# Altium schematic symbol library RF.SchLib: 55 symbols
Pins are listed as number, name and electrical type; pins without a type are passive.

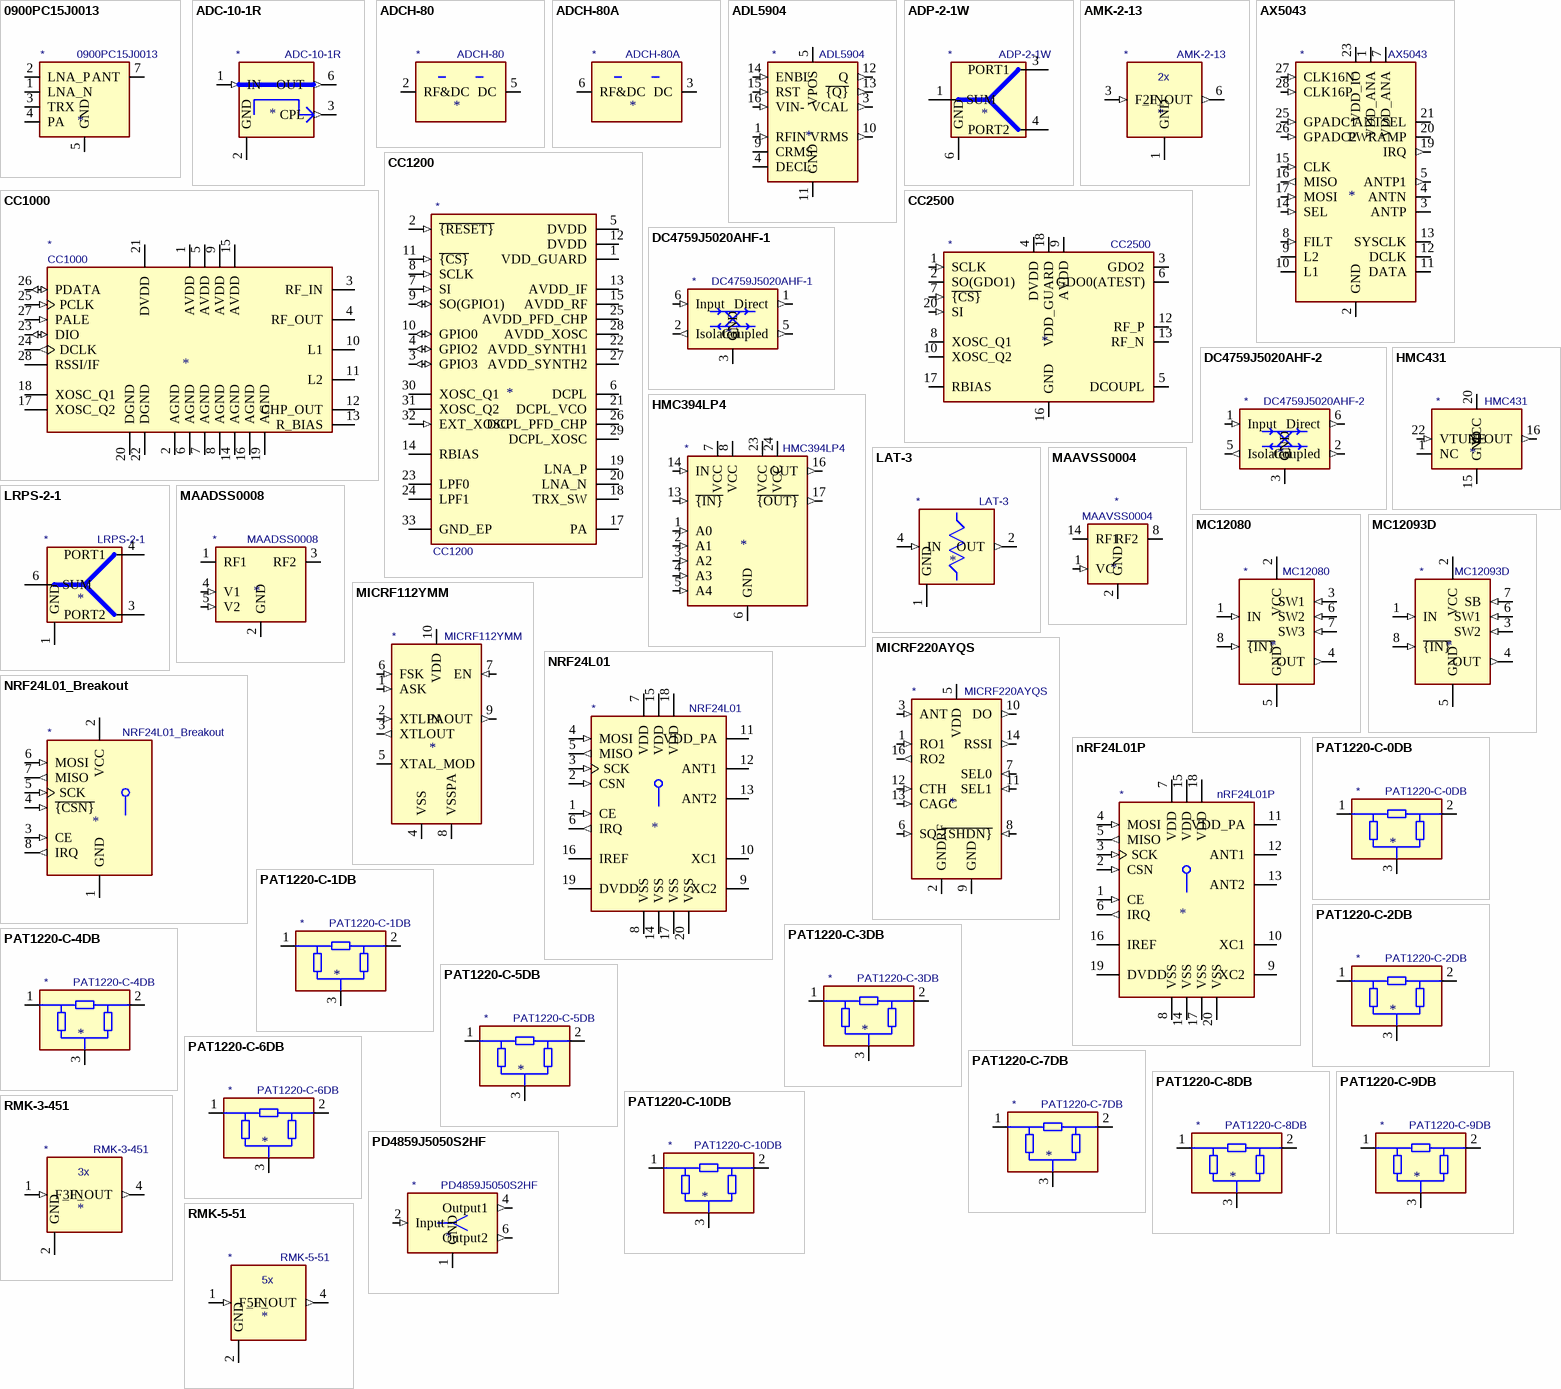
[diagram p0: symbols 0900PC15J0013 to RMK-5-51]

## 0900PC15J0013
designator *  value 0900PC15J0013
ki_keywords: CC1120 CC1121 CC1125 CC1175 CC1200 CC1201 balun; ki_description: 868/915MHz Impedance Matched, Multi-Function, Integrated Ceramic Passive Component for Texas Instruments CC112x, CC117x & CC12xx Chipsets; ki_fp_filters: Balun*Johanson*0900PC15J0013*; Footprint: RF_Converter:Balun_Johanson_0900PC15J0013; Supplier: https://www.johansontechnology.com/datasheets/0900PC15J0013/0900PC15J0013.pdf
footprint Balun_Johanson_0900PC15J0013
pins: 1 LNA_N, 2 LNA_P, 3 TRX, 4 PA, 5 GND (power), 6 GND hidden, 7 ANT, 8 GND hidden, 9 GND hidden, 10 GND hidden

## ADC-10-1R
designator *  value ADC-10-1R
ki_keywords: Directional Coupler; ki_description: Directional Coupler, 5 to 900 MHz, 10 dB Coupling, 50 Ohm, Mini-Circuits CD542; ki_fp_filters: Mini?Circuits*CD542*; Footprint: RF_Mini-Circuits:Mini-Circuits_CD542_LandPatternPL-094; Supplier: https://www.minicircuits.com/pdfs/ADC-10-1R.pdf
footprint Mini-Circuits_CD542_LandPatternPL-094
pins: 1 IN (in), 2 GND (power), 3 CPL (out), 4 NC (in) hidden, 5 GND hidden, 6 OUT (out)

## ADCH-80
designator *  value ADCH-80
ki_keywords: bias filter DC choke; ki_description: 50-10000MHz, RF Choke, Mini-Circuits CD542; ki_fp_filters: Mini?Circuits*CD542*; Footprint: RF_Mini-Circuits:Mini-Circuits_CD542_H2.84mm; Supplier: https://www.minicircuits.com/pdfs/ADCH-80+.pdf
footprint Mini-Circuits_CD542_H2.84mm
pins: 1 NC (in) hidden, 2 RF&DC, 3 NC (in) hidden, 4 NC (in) hidden, 5 DC, 6 NC (in) hidden

## ADCH-80A
designator *  value ADCH-80A
ki_keywords: bias filter DC choke; ki_description: 50-10000MHz, RF Choke, Mini-Circuits CD542; ki_fp_filters: Mini?Circuits*CD542*; Footprint: RF_Mini-Circuits:Mini-Circuits_CD542_H2.84mm; Supplier: https://www.minicircuits.com/pdfs/ADCH-80A+.pdf
footprint Mini-Circuits_CD542_H2.84mm
pins: 1 NC (in) hidden, 2 NC (in) hidden, 3 DC, 4 NC (in) hidden, 5 NC (in) hidden, 6 RF&DC

## ADL5904
designator *  value ADL5904
ki_keywords: RMS power detector log decibel dB; ki_description: DC to 6 GHz, 45 dB TruPwr Detector with Envelope Threshold Detection, LFCSP-16; ki_fp_filters: LFCSP*1EP*3x3mm*P0.5mm*; Footprint: Package_CSP:LFCSP-16-1EP_3x3mm_P0.5mm_EP1.6x1.6mm; Supplier: https://www.analog.com/media/en/technical-documentation/data-sheets/ADL5904.pdf
footprint LFCSP-16-1EP_3x3mm_P0.5mm_EP1.6x1.6mm
pins: 1 RFIN (in), 2 DNC (in) hidden, 3 VCAL (out), 4 DECL, 5 VPOS (power), 6 DNC (in) hidden, 7 VPOS hidden, 8 DNC (in) hidden, 9 CRMS, 10 VRMS (out), 11 GND (power), 12 Q (out), 13 ~{{Q}} (out), 14 ENBL (in), 15 RST (in), 16 VIN- (in), 17 GND hidden

## ADP-2-1W
designator *  value ADP-2-1W
ki_keywords: splitter combiner; ki_description: Power splitter combiner, 1 to 650 MHz, 2 way 0-degree, 50 ohm, Mini-Circuits CD636; ki_fp_filters: Mini?Circuits*CD636*; Footprint: RF_Mini-Circuits:Mini-Circuits_CD636_LandPatternPL-035; Supplier: https://www.minicircuits.com/pdfs/ADP-2-1W.pdf
footprint Mini-Circuits_CD636_LandPatternPL-035
pins: 1 SUM, 2 NC (in) hidden, 3 PORT1, 4 PORT2, 5 NC (in) hidden, 6 GND

## AMK-2-13
designator *  value AMK-2-13
ki_keywords: frequency multiplier; ki_description: 2x Frequency Multiplier, output 20 to 1000 MHz, 50 Ohm, Mini-Circuits CD542; ki_fp_filters: Mini?Circuits*CD542*; Footprint: RF_Mini-Circuits:Mini-Circuits_CD542_LandPatternPL-052; Supplier: https://www.minicircuits.com/pdfs/AMK-2-13+.pdf
footprint Mini-Circuits_CD542_LandPatternPL-052
pins: 1 GND (power), 2 NC (in) hidden, 3 F_IN (in), 4 GND hidden, 5 GND hidden, 6 2F_OUT (out)
text: 2x

## AX5043
designator *  value AX5043
ki_keywords: RF, transceiver; ki_description: Advanced High Performance ASK and FSK Narrow-band Transceiver for 27 - 1050 MHz Range; ki_fp_filters: QFN?28*5x5mm*P0.5mm*; Footprint: Package_DFN_QFN:QFN-28-1EP_5x5mm_P0.5mm_EP3.35x3.35mm; Supplier: https://www.onsemi.com/pub/Collateral/AX5043-D.PDF
footprint QFN-28-1EP_5x5mm_P0.5mm_EP3.35x3.35mm
pins: 1 VDD_ANA (power), 2 GND (power), 3 ANTP (io), 4 ANTN (io), 5 ANTP1 (out), 6 GND hidden, 7 VDD_ANA (power), 8 FILT (in), 9 L2, 10 L1, 11 DATA (io), 12 DCLK (io), 13 SYSCLK (io), 14 SEL (in), 15 CLK (in), 16 MISO (out), 17 MOSI (in), 18 NC (in) hidden, 19 IRQ (out), 20 PWRAMP (io), 21 ANTSEL (io), 22 NC (in) hidden, 23 VDD_IO (power), 24 NC (in) hidden, 25 GPADC1 (in), 26 GPADC2 (in), 27 CLK16N (in), 28 CLK16P (in), 29 GND hidden

## CC1000
designator *  value CC1000
ki_keywords: Low Power RF Transceiver; ki_description: Single Chip Low Power RF Transceiver, TSSOP-28; ki_fp_filters: TSSOP*4.4x9.7mm*P0.65mm*; Footprint: Package_SO:TSSOP-28_4.4x9.7mm_P0.65mm; Supplier: www.ti.com/lit/ds/symlink/cc1000.pdf
footprint TSSOP-28_4.4x9.7mm_P0.65mm
pins: 1 AVDD (power), 2 AGND (power), 3 RF_IN, 4 RF_OUT, 5 AVDD (power), 6 AGND (power), 7 AGND (power), 8 AGND (power), 9 AVDD (power), 10 L1, 11 L2, 12 CHP_OUT, 13 R_BIAS, 14 AGND (power), 15 AVDD (power), 16 AGND (power), 17 XOSC_Q2, 18 XOSC_Q1, 19 AGND (power), 20 DGND (power), 21 DVDD (power), 22 DGND (power), 23 DIO (io), 24 DCLK (out), 25 PCLK (in), 26 PDATA (io), 27 PALE (in), 28 RSSI/IF

## CC1200
designator *  value CC1200
ki_keywords: RF Tx Rx; ki_description: Low-Power, High-Performance RF Transceiver, QFN-32; ki_fp_filters: QFN*5x5mm*P0.5mm*; Footprint: Package_DFN_QFN:QFN-32-1EP_5x5mm_P0.5mm_EP3.45x3.45mm; Supplier: http://www.ti.com/lit/ds/symlink/cc1200.pdf
footprint QFN-32-1EP_5x5mm_P0.5mm_EP3.45x3.45mm
pins: 1 VDD_GUARD (power), 2 ~{{RESET}} (in), 3 GPIO3 (io), 4 GPIO2 (io), 5 DVDD (power), 6 DCPL (power), 7 SI (in), 8 SCLK (in), 9 SO(GPIO1) (io), 10 GPIO0 (io), 11 ~{{CS}} (in), 12 DVDD (power), 13 AVDD_IF (power), 14 RBIAS, 15 AVDD_RF (power), 17 PA, 18 TRX_SW, 19 LNA_P, 20 LNA_N, 21 DCPL_VCO (power), 22 AVDD_SYNTH1 (power), 23 LPF0, 24 LPF1, 25 AVDD_PFD_CHP (power), 26 DCPL_PFD_CHP (power), 27 AVDD_SYNTH2 (power), 28 AVDD_XOSC (power), 29 DCPL_XOSC (power), 30 XOSC_Q1, 31 XOSC_Q2, 32 EXT_XOSC (in), 33 GND_EP (power)

## CC2500
designator *  value CC2500
ki_keywords: Low Power RF Transceiver; ki_description: Single Chip Low Power RF Transceiver, QFN-20; ki_fp_filters: *QFN*4x4mm*0.5mm*; Footprint: Package_DFN_QFN:Texas_S-PVQFN-N20_EP2.4x2.4mm; Supplier: http://www.ti.com/lit/ds/symlink/cc2500.pdf
footprint Texas_S-PVQFN-N20_EP2.4x2.4mm
pins: 1 SCLK (in), 2 SO(GDO1) (io), 3 GDO2 (io), 4 DVDD (power), 5 DCOUPL (power), 6 GDO0(ATEST) (io), 7 ~{{CS}} (in), 8 XOSC_Q1, 9 AVDD (power), 10 XOSC_Q2, 11 AVDD hidden, 12 RF_P, 13 RF_N, 14 AVDD hidden, 15 AVDD hidden, 16 GND (power), 17 RBIAS, 18 VDD_GUARD (power), 19 GND hidden, 20 SI (in), 21 GND hidden

## DC4759J5020AHF-1
designator *  value DC4759J5020AHF-1
ki_keywords: RF coupler; ki_description: 4.7-5.9GHz 20dB Directional Coupler, Configuration 1, Anaren 0805; ki_fp_filters: Anaren*0805*2012Metric*; Footprint: RF_Converter:Anaren_0805_2012Metric-6; Supplier: https://cdn.anaren.com/product-documents/Xinger/DirectionalCouplers/DC4759J5020AHF/DC4759J5020AHF_DataSheet(Rev_E).pdf
footprint Anaren_0805_2012Metric-6
pins: 1 Direct (out), 2 Isolated (out), 3 GND (power), 4 GND hidden, 5 Coupled (out), 6 Input (in)

## DC4759J5020AHF-2
designator *  value DC4759J5020AHF-2
ki_keywords: RF coupler; ki_description: 4.7-5.9GHz 20dB Directional Coupler, Configuration 2, Anaren 0805; ki_fp_filters: Anaren*0805*2012Metric*; Footprint: RF_Converter:Anaren_0805_2012Metric-6; Supplier: https://cdn.anaren.com/product-documents/Xinger/DirectionalCouplers/DC4759J5020AHF/DC4759J5020AHF_DataSheet(Rev_E).pdf
footprint Anaren_0805_2012Metric-6
pins: 1 Input (in), 2 Coupled (out), 3 GND (power), 4 GND hidden, 5 Isolated (out), 6 Direct (out)

## HMC394LP4
designator *  value HMC394LP4
ki_keywords: counter prescaler programmable frequency divider; ki_description: GaAs HBT Programmable 5-bit Counter, DC - 2.2 GHz, QFN-24-1EP; ki_fp_filters: QFN*1EP*4x4mm*P0.5mm*; Footprint: Package_DFN_QFN:QFN-24-1EP_4x4mm_P0.5mm_EP2.8x2.8mm; Supplier: https://www.analog.com/media/en/technical-documentation/data-sheets/hmc394.pdf
footprint QFN-24-1EP_4x4mm_P0.5mm_EP2.8x2.8mm
pins: 1 A0 (in), 2 A1 (in), 3 A2 (in), 4 A3 (in), 5 A4 (in), 6 GND (power), 7 VCC (power), 8 VCC (power), 9 GND hidden, 10 GND hidden, 11 GND hidden, 12 GND hidden, 13 ~{{IN}} (in), 14 IN (in), 15 GND hidden, 16 OUT (out), 17 ~{{OUT}} (out), 18 GND hidden, 19 GND hidden, 20 GND hidden, 21 GND hidden, 22 GND hidden, 23 VCC (power), 24 VCC (power), 25 GND hidden

## HMC431
designator *  value HMC431
ki_keywords: vco rf; ki_description: 5.5-6.1GHz VCO, QFN-24; ki_fp_filters: QFN*1EP*4x4mm*P0.5mm*; Footprint: Package_DFN_QFN:QFN-24-1EP_4x4mm_P0.5mm_EP2.8x2.8mm; Supplier: https://www.analog.com/media/en/technical-documentation/data-sheets/hmc431.pdf
footprint QFN-24-1EP_4x4mm_P0.5mm_EP2.8x2.8mm
pins: 1 NC, 2 NC hidden, 3 NC hidden, 4 NC hidden, 5 NC hidden, 6 NC hidden, 7 NC hidden, 8 NC hidden, 9 NC hidden, 10 NC hidden, 11 NC hidden, 12 NC hidden, 13 NC hidden, 14 NC hidden, 15 GND (power), 16 RFOUT (out), 17 NC hidden, 18 NC hidden, 19 NC hidden, 20 VCC (power), 21 NC hidden, 22 VTUNE (in), 23 NC hidden, 24 NC hidden, 25 GND hidden

## LAT-3
designator *  value LAT-3
ki_keywords: attenuator rf; ki_description: Attenuator, 3dB, 0.5W, DC to 2500 MHz, 50 Ohm, Mini-Circuits MMM168; ki_fp_filters: Mini?Circuits*MMM168*; Footprint: RF_Mini-Circuits:Mini-Circuits_MMM168_LandPatternPL-225; Supplier: https://www.minicircuits.com/pdfs/LAT-3+.pdf
footprint Mini-Circuits_MMM168_LandPatternPL-225
pins: 1 GND (power), 2 OUT (out), 3 GND hidden, 4 IN (in)

## LRPS-2-1
designator *  value LRPS-2-1
ki_keywords: power splitter combiner; ki_description: Power Splitter/Combiner, 5 to 500 MHz, 50 Ohm; ki_fp_filters: Mini?Circuits*QQQ130*; Footprint: RF_Mini-Circuits:Mini-Circuits_QQQ130_LandPattern_PL-236_ClockwisePinNumbering; Supplier: https://www.minicircuits.com/pdfs/LRPS-2-1.pdf
footprint Mini-Circuits_QQQ130_LandPattern_PL-236_ClockwisePinNumbering
pins: 1 GND, 2 NC (in) hidden, 3 PORT2, 4 PORT1, 5 NC (in) hidden, 6 SUM

## MAADSS0008
designator *  value MAADSS0008
ki_keywords: RF attenuator; ki_description: 0-2GHz, 15dB step attenuator, SOT-23-5; ki_fp_filters: SOT*23*5*; Footprint: Package_TO_SOT_SMD:SOT-23-5; Supplier: http://cdn.macom.com/datasheets/maadss0008.pdf
footprint SOT-23-5
pins: 1 RF1, 2 GND, 3 RF2, 4 V1 (in), 5 V2 (in)

## MAAVSS0004
designator *  value MAAVSS0004
ki_keywords: VVA; ki_description: DC-2GHz, 35dB, Voltage Variable Absorptive Attenuator, SOIC-14; ki_fp_filters: SOIC*3.9x8.7mm*P1.27mm*; Footprint: Package_SO:SOIC-14_3.9x8.7mm_P1.27mm; Supplier: https://cdn.macom.com/datasheets/MAAVSS0004.pdf
footprint SOIC-14_3.9x8.7mm_P1.27mm
pins: 1 VC (in), 2 GND (power), 3 GND hidden, 4 GND hidden, 5 GND hidden, 6 GND hidden, 7 GND hidden, 8 RF2, 9 GND hidden, 10 GND hidden, 11 GND hidden, 12 GND hidden, 13 GND hidden, 14 RF1

## MC12080
designator *  value MC12080
ki_keywords: prescaler frequency divider; ki_description: 1.1 GHz Prescaler, divide by 10 20 40 80, SOIC-8; ki_fp_filters: SOIC*3.9x4.9mm*P1.27mm*; Footprint: Package_SO:SOIC-8_3.9x4.9mm_P1.27mm; Supplier: https://www.onsemi.com/pub/Collateral/MC12080-D.PDF
footprint SOIC-8_3.9x4.9mm_P1.27mm
pins: 1 IN (in), 2 VCC (power), 3 SW1 (in), 4 OUT (out), 5 GND (power), 6 SW2 (in), 7 SW3 (in), 8 ~{{IN}} (in)

## MC12093D
designator *  value MC12093D
ki_keywords: prescaler frequency divider; ki_description: /2, /4, /8, 1.1 GHz Low Power Prescaler with Stand‐By Mode, SOIC-8; ki_fp_filters: SOIC*3.9x4.9mm*P1.27mm*; Footprint: Package_SO:SOIC-8_3.9x4.9mm_P1.27mm; Supplier: https://www.onsemi.com/pub/Collateral/MC12093-D.PDF
footprint SOIC-8_3.9x4.9mm_P1.27mm
pins: 1 IN (in), 2 VCC (power), 3 SW2 (in), 4 OUT (out), 5 GND (power), 6 SW1 (in), 7 SB (in), 8 ~{{IN}} (in)

## MICRF112YMM
designator *  value MICRF112YMM
ki_keywords: ask fsk ism transmitter; ki_description: ASK/FSK Transmitter, 1.8-3.6V, 300-450MHz, +10dBm, MSOP-10; ki_fp_filters: MSOP*3x3mm*P0.5mm*; Footprint: Package_SO:MSOP-10_3x3mm_P0.5mm; Supplier: http://ww1.microchip.com/downloads/en/DeviceDoc/MICRF112.pdf
footprint MSOP-10_3x3mm_P0.5mm
pins: 1 ASK (in), 2 XTLIN (in), 3 XTLOUT (out), 4 VSS (power), 5 XTAL_MOD, 6 FSK (in), 7 EN (in), 8 VSSPA (power), 9 PAOUT (out), 10 VDD (power)

## MICRF220AYQS
designator *  value MICRF220AYQS
ki_keywords: ask receiver; ki_description: ASK Receiver 3.0-3.6V, 300-450MHz, -110dBm, QSOP-16; ki_fp_filters: QSOP*3.9x4.9mm*P0.635mm*; Footprint: Package_SO:QSOP-16_3.9x4.9mm_P0.635mm; Supplier: http://ww1.microchip.com/downloads/en/DeviceDoc/micrf220.pdf
footprint QSOP-16_3.9x4.9mm_P0.635mm
pins: 1 RO1 (in), 2 GNDRF (power), 3 ANT (in), 4 GNDRF hidden, 5 VDD (power), 6 SQ (in), 7 SEL0 (in), 8 ~{{SHDN}} (in), 9 GND (power), 10 DO (out), 11 SEL1 (in), 12 CTH (in), 13 CAGC (in), 14 RSSI (out), 15 NC (in) hidden, 16 RO2 (out)

## NRF24L01
designator *  value NRF24L01
ki_keywords: Low Power RF Transceiver; ki_description: Ultra low power 2.4GHz RF Transceiver, QFN-20; ki_fp_filters: QFN*4x4*0.5mm*; Footprint: Package_DFN_QFN:QFN-20-1EP_4x4mm_P0.5mm_EP2.5x2.5mm; Supplier: http://www.nordicsemi.com/eng/content/download/2730/34105/file/nRF24L01_Product_Specification_v2_0.pdf
footprint QFN-20-1EP_4x4mm_P0.5mm_EP2.5x2.5mm
pins: 1 CE (in), 2 CSN (in), 3 SCK (in), 4 MOSI (in), 5 MISO (out), 6 IRQ (out), 7 VDD (power), 8 VSS (power), 9 XC2, 10 XC1, 11 VDD_PA (power), 12 ANT1, 13 ANT2, 14 VSS (power), 15 VDD (power), 16 IREF, 17 VSS (power), 18 VDD (power), 19 DVDD (power), 20 VSS (power)

## NRF24L01_Breakout
designator *  value NRF24L01_Breakout
ki_keywords: Low Power RF Transceiver breakout carrier; ki_description: Ultra low power 2.4GHz RF Transceiver, Carrier PCB; ki_fp_filters: nRF24L01*Breakout*; Footprint: RF_Module:nRF24L01_Breakout; Supplier: http://www.nordicsemi.com/eng/content/download/2730/34105/file/nRF24L01_Product_Specification_v2_0.pdf
footprint nRF24L01_Breakout
pins: 1 GND (power), 2 VCC (power), 3 CE (in), 4 ~{{CSN}} (in), 5 SCK (in), 6 MOSI (in), 7 MISO (out), 8 IRQ (out)

## nRF24L01P
designator *  value nRF24L01P
ki_keywords: Low Power RF Transceiver; ki_description: nRF24L01+, Ultra low power 2.4GHz RF Transceiver, QFN20 4x4mm; ki_fp_filters: QFN*4x4*0.5mm*; Footprint: Package_DFN_QFN:QFN-20-1EP_4x4mm_P0.5mm_EP2.5x2.5mm; Supplier: http://www.nordicsemi.com/eng/content/download/2726/34069/file/nRF24L01P_Product_Specification_1_0.pdf
footprint QFN-20-1EP_4x4mm_P0.5mm_EP2.5x2.5mm
pins: 1 CE (in), 2 CSN (in), 3 SCK (in), 4 MOSI (in), 5 MISO (out), 6 IRQ (out), 7 VDD (power), 8 VSS (power), 9 XC2, 10 XC1, 11 VDD_PA (power), 12 ANT1, 13 ANT2, 14 VSS (power), 15 VDD (power), 16 IREF, 17 VSS (power), 18 VDD (power), 19 DVDD (power), 20 VSS (power)

## PAT1220-C-0DB
designator *  value PAT1220-C-0DB
ki_keywords: RF attenuator; ki_description: 10GHz RF Attenuator, 50ohm Matched Impedance, 0dB Attenuation, PAT1220; ki_fp_filters: RF*Attenuator*Susumu*PAT1220*; Footprint: RF_Converter:RF_Attenuator_Susumu_PAT1220; Supplier: https://www.susumu.co.jp/common/pdf/n_catalog_partition16_en.pdf
footprint RF_Attenuator_Susumu_PAT1220
pins: 1, 2, 3

## PAT1220-C-1DB
designator *  value PAT1220-C-1DB
ki_keywords: RF attenuator; ki_description: 10GHz RF Attenuator, 50ohm Matched Impedance, 1dB Attenuation, PAT1220; ki_fp_filters: RF*Attenuator*Susumu*PAT1220*; Footprint: RF_Converter:RF_Attenuator_Susumu_PAT1220; Supplier: https://www.susumu.co.jp/common/pdf/n_catalog_partition16_en.pdf
footprint RF_Attenuator_Susumu_PAT1220
pins: 1, 2, 3

## PAT1220-C-2DB
designator *  value PAT1220-C-2DB
ki_keywords: RF attenuator; ki_description: 10GHz RF Attenuator, 50ohm Matched Impedance, 2dB Attenuation, PAT1220; ki_fp_filters: RF*Attenuator*Susumu*PAT1220*; Footprint: RF_Converter:RF_Attenuator_Susumu_PAT1220; Supplier: https://www.susumu.co.jp/common/pdf/n_catalog_partition16_en.pdf
footprint RF_Attenuator_Susumu_PAT1220
pins: 1, 2, 3

## PAT1220-C-3DB
designator *  value PAT1220-C-3DB
ki_keywords: RF attenuator; ki_description: 10GHz RF Attenuator, 50ohm Matched Impedance, 3dB Attenuation, PAT1220; ki_fp_filters: RF*Attenuator*Susumu*PAT1220*; Footprint: RF_Converter:RF_Attenuator_Susumu_PAT1220; Supplier: https://www.susumu.co.jp/common/pdf/n_catalog_partition16_en.pdf
footprint RF_Attenuator_Susumu_PAT1220
pins: 1, 2, 3

## PAT1220-C-4DB
designator *  value PAT1220-C-4DB
ki_keywords: RF attenuator; ki_description: 10GHz RF Attenuator, 50ohm Matched Impedance, 4dB Attenuation, PAT1220; ki_fp_filters: RF*Attenuator*Susumu*PAT1220*; Footprint: RF_Converter:RF_Attenuator_Susumu_PAT1220; Supplier: https://www.susumu.co.jp/common/pdf/n_catalog_partition16_en.pdf
footprint RF_Attenuator_Susumu_PAT1220
pins: 1, 2, 3

## PAT1220-C-5DB
designator *  value PAT1220-C-5DB
ki_keywords: RF attenuator; ki_description: 10GHz RF Attenuator, 50ohm Matched Impedance, 5dB Attenuation, PAT1220; ki_fp_filters: RF*Attenuator*Susumu*PAT1220*; Footprint: RF_Converter:RF_Attenuator_Susumu_PAT1220; Supplier: https://www.susumu.co.jp/common/pdf/n_catalog_partition16_en.pdf
footprint RF_Attenuator_Susumu_PAT1220
pins: 1, 2, 3

## PAT1220-C-6DB
designator *  value PAT1220-C-6DB
ki_keywords: RF attenuator; ki_description: 10GHz RF Attenuator, 50ohm Matched Impedance, 6dB Attenuation, PAT1220; ki_fp_filters: RF*Attenuator*Susumu*PAT1220*; Footprint: RF_Converter:RF_Attenuator_Susumu_PAT1220; Supplier: https://www.susumu.co.jp/common/pdf/n_catalog_partition16_en.pdf
footprint RF_Attenuator_Susumu_PAT1220
pins: 1, 2, 3

## PAT1220-C-7DB
designator *  value PAT1220-C-7DB
ki_keywords: RF attenuator; ki_description: 10GHz RF Attenuator, 50ohm Matched Impedance, 7dB Attenuation, PAT1220; ki_fp_filters: RF*Attenuator*Susumu*PAT1220*; Footprint: RF_Converter:RF_Attenuator_Susumu_PAT1220; Supplier: https://www.susumu.co.jp/common/pdf/n_catalog_partition16_en.pdf
footprint RF_Attenuator_Susumu_PAT1220
pins: 1, 2, 3

## PAT1220-C-8DB
designator *  value PAT1220-C-8DB
ki_keywords: RF attenuator; ki_description: 10GHz RF Attenuator, 50ohm Matched Impedance, 8dB Attenuation, PAT1220; ki_fp_filters: RF*Attenuator*Susumu*PAT1220*; Footprint: RF_Converter:RF_Attenuator_Susumu_PAT1220; Supplier: https://www.susumu.co.jp/common/pdf/n_catalog_partition16_en.pdf
footprint RF_Attenuator_Susumu_PAT1220
pins: 1, 2, 3

## PAT1220-C-9DB
designator *  value PAT1220-C-9DB
ki_keywords: RF attenuator; ki_description: 10GHz RF Attenuator, 50ohm Matched Impedance, 9dB Attenuation, PAT1220; ki_fp_filters: RF*Attenuator*Susumu*PAT1220*; Footprint: RF_Converter:RF_Attenuator_Susumu_PAT1220; Supplier: https://www.susumu.co.jp/common/pdf/n_catalog_partition16_en.pdf
footprint RF_Attenuator_Susumu_PAT1220
pins: 1, 2, 3

## PAT1220-C-10DB
designator *  value PAT1220-C-10DB
ki_keywords: RF attenuator; ki_description: 10GHz RF Attenuator, 50ohm Matched Impedance, 10dB Attenuation, PAT1220; ki_fp_filters: RF*Attenuator*Susumu*PAT1220*; Footprint: RF_Converter:RF_Attenuator_Susumu_PAT1220; Supplier: https://www.susumu.co.jp/common/pdf/n_catalog_partition16_en.pdf
footprint RF_Attenuator_Susumu_PAT1220
pins: 1, 2, 3

## PD4859J5050S2HF
designator *  value PD4859J5050S2HF
ki_keywords: rf power divider wilkinson; ki_description: 4.8-5.9GHz Wilkinson Power Divider, Anaren 0805; ki_fp_filters: Anaren*0805*2012Metric*; Footprint: RF_Converter:Anaren_0805_2012Metric-6; Supplier: https://cdn.anaren.com/product-documents/Xinger/PowerDividers/PD4859J5050S2HF/PD4859J5050S2HF_DataSheet(Rev_D).pdf
footprint Anaren_0805_2012Metric-6
pins: 1 GND (power), 2 Input (in), 3 GND hidden, 4 Output1 (out), 5 GND hidden, 6 Output2 (out)

## RMK-3-451
designator *  value RMK-3-451
ki_keywords: frequency multiplier; ki_description: 3x Frequency Multiplier, output 300 to 450 MHz, 50 Ohm, Mini-Circuits TT1224; ki_fp_filters: Mini?Circuits*TT1224*; Footprint: RF_Mini-Circuits:Mini-Circuits_TT1224_LandPatternPL-258_ClockwisePinNumbering; Supplier: https://www.minicircuits.com/pdfs/RMK-3-451+.pdf
footprint Mini-Circuits_TT1224_LandPatternPL-258_ClockwisePinNumbering
pins: 1 F_IN (in), 2 GND (power), 3 GND hidden, 4 3F_OUT (out), 5 GND hidden, 6 GND hidden
text: 3x

## RMK-5-51
designator *  value RMK-5-51
ki_keywords: frequency multiplier; ki_description: 5x Frequency Multiplier, Output 37.5 to 52.5 MHz, 50 Ohm, Mini-Circuits TT1224; ki_fp_filters: Mini?Circuits*TT1224*; Footprint: RF_Mini-Circuits:Mini-Circuits_TT1224_LandPatternPL-258_ClockwisePinNumbering; Supplier: https://www.minicircuits.com/pdfs/RMK-5-51+.pdf
footprint Mini-Circuits_TT1224_LandPatternPL-258_ClockwisePinNumbering
pins: 1 F_IN (in), 2 GND (power), 3 GND hidden, 4 5F_OUT (out), 5 GND hidden, 6 GND hidden
text: 5x

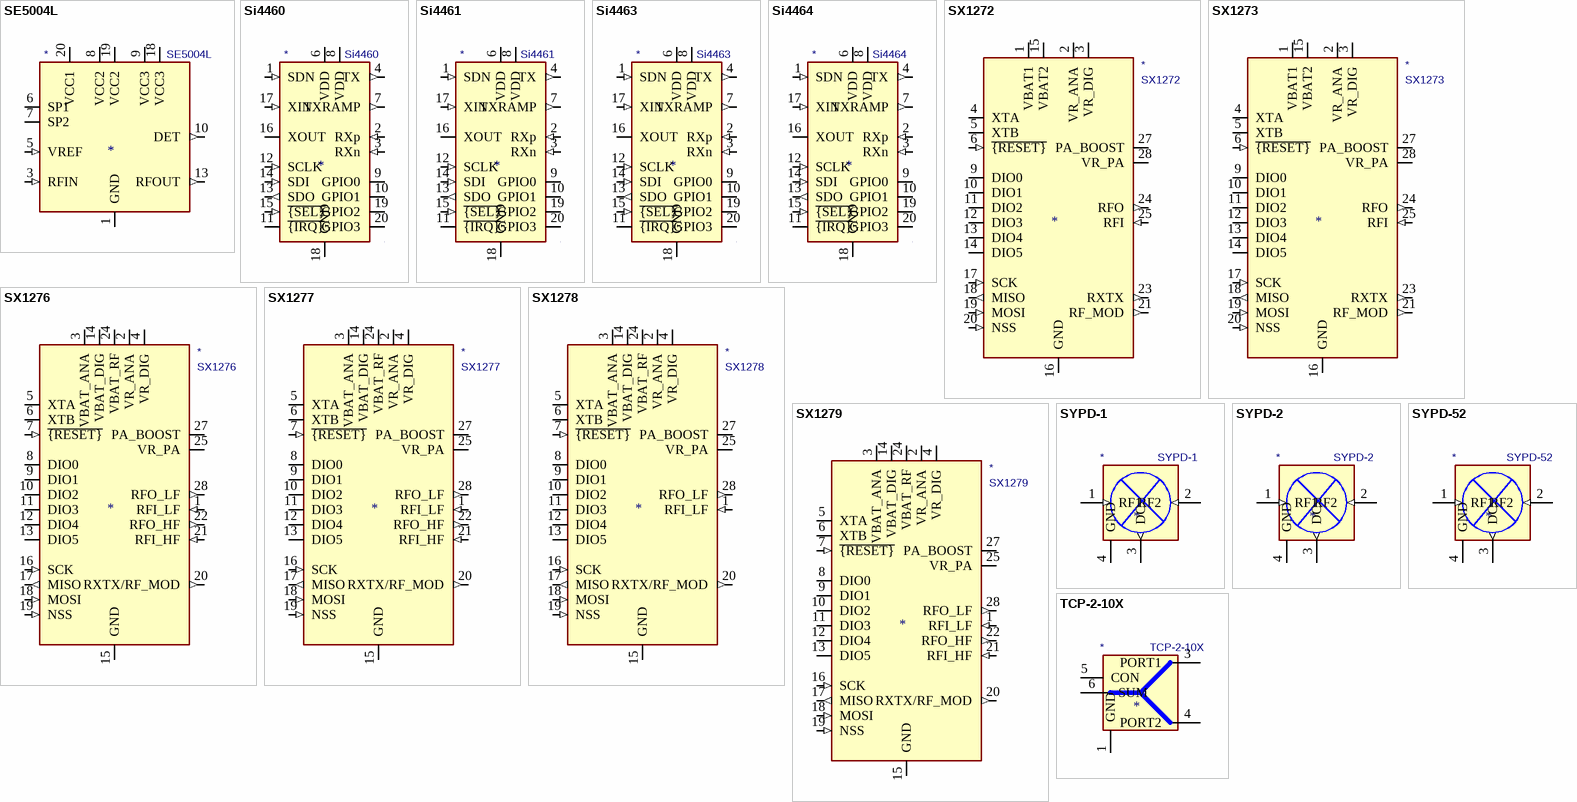
[diagram p1: symbols SE5004L to TCP-2-10X]

## SE5004L
designator *  value SE5004L
ki_keywords: RF Power Amplifier; ki_description: 5 GHz, 26dBm Power Amplifier with Power Detector, QFN-20; ki_fp_filters: QFN*4x4mm*P0.5mm*; Footprint: Package_DFN_QFN:QFN-20-1EP_4x4mm_P0.5mm_EP2.5x2.5mm; Supplier: https://www.skyworksinc.com/-/media/SkyWorks/Documents/Products/601-700/SE5004L_202393B.pdf
footprint QFN-20-1EP_4x4mm_P0.5mm_EP2.5x2.5mm
pins: 1 GND (power), 2 GND hidden, 3 RFIN (in), 4 GND hidden, 5 VREF (in), 6 SP1, 7 SP2, 8 VCC2 (power), 9 VCC3 (power), 10 DET (out), 11 GND hidden, 12 GND hidden, 13 RFOUT (out), 14 GND hidden, 15 GND hidden, 16 GND hidden, 17 GND hidden, 18 VCC3 (power), 19 VCC2 (power), 20 VCC1 (power), 21 GND hidden

## Si4460
designator *  value Si4460
ki_keywords: transceiver sub-ghz radio ism; ki_description: High-Performance, Low-Current Sub-GHz Transceiver, +13dBm, Major bands 142-1050 MHz, QFN-20; ki_fp_filters: QFN*1EP*4x4mm*P0.5mm*; Footprint: Package_DFN_QFN:QFN-20-1EP_4x4mm_P0.5mm_EP2.6x2.6mm_ThermalVias; Supplier: https://www.silabs.com/documents/public/data-sheets/Si4464-63-61-60.pdf
footprint QFN-20-1EP_4x4mm_P0.5mm_EP2.6x2.6mm_ThermalVias
pins: 1 SDN (in), 2 RXp (in), 3 RXn (in), 4 TX (out), 5 NC (in) hidden, 6 VDD (power), 7 TXRAMP (out), 8 VDD (power), 9 GPIO0 (io), 10 GPIO1 (io), 11 ~{{IRQ}} (oc), 12 SCLK (in), 13 SDO (out), 14 SDI (in), 15 ~{{SEL}} (in), 16 XOUT, 17 XIN (in), 18 GND (power), 19 GPIO2 (io), 20 GPIO3 (io), 21 GND (power) hidden

## Si4461
designator *  value Si4461
ki_keywords: transceiver sub-ghz radio ism; ki_description: High-Performance, Low-Current Sub-GHz Transceiver, +16dBm, Major bands 142-1050 MHz, QFN-20; ki_fp_filters: QFN*1EP*4x4mm*P0.5mm*; Footprint: Package_DFN_QFN:QFN-20-1EP_4x4mm_P0.5mm_EP2.6x2.6mm_ThermalVias; Supplier: https://www.silabs.com/documents/public/data-sheets/Si4464-63-61-60.pdf
footprint QFN-20-1EP_4x4mm_P0.5mm_EP2.6x2.6mm_ThermalVias
pins: 1 SDN (in), 2 RXp (in), 3 RXn (in), 4 TX (out), 5 NC (in) hidden, 6 VDD (power), 7 TXRAMP (out), 8 VDD (power), 9 GPIO0 (io), 10 GPIO1 (io), 11 ~{{IRQ}} (oc), 12 SCLK (in), 13 SDO (out), 14 SDI (in), 15 ~{{SEL}} (in), 16 XOUT, 17 XIN (in), 18 GND (power), 19 GPIO2 (io), 20 GPIO3 (io), 21 GND (power) hidden

## Si4463
designator *  value Si4463
ki_keywords: transceiver sub-ghz radio ism; ki_description: High-Performance, Low-Current Sub-GHz Transceiver, +20dBm, Major bands 142-1050 MHz, QFN-20; ki_fp_filters: QFN*1EP*4x4mm*P0.5mm*; Footprint: Package_DFN_QFN:QFN-20-1EP_4x4mm_P0.5mm_EP2.6x2.6mm_ThermalVias; Supplier: https://www.silabs.com/documents/public/data-sheets/Si4464-63-61-60.pdf
footprint QFN-20-1EP_4x4mm_P0.5mm_EP2.6x2.6mm_ThermalVias
pins: 1 SDN (in), 2 RXp (in), 3 RXn (in), 4 TX (out), 5 NC (in) hidden, 6 VDD (power), 7 TXRAMP (out), 8 VDD (power), 9 GPIO0 (io), 10 GPIO1 (io), 11 ~{{IRQ}} (oc), 12 SCLK (in), 13 SDO (out), 14 SDI (in), 15 ~{{SEL}} (in), 16 XOUT, 17 XIN (in), 18 GND (power), 19 GPIO2 (io), 20 GPIO3 (io), 21 GND (power) hidden

## Si4464
designator *  value Si4464
ki_keywords: transceiver sub-ghz radio ism; ki_description: High-Performance, Low-Current Sub-GHz Transceiver, +20dBm, Banded 119-960 MHz, QFN-20; ki_fp_filters: QFN*1EP*4x4mm*P0.5mm*; Footprint: Package_DFN_QFN:QFN-20-1EP_4x4mm_P0.5mm_EP2.6x2.6mm_ThermalVias; Supplier: https://www.silabs.com/documents/public/data-sheets/Si4464-63-61-60.pdf
footprint QFN-20-1EP_4x4mm_P0.5mm_EP2.6x2.6mm_ThermalVias
pins: 1 SDN (in), 2 RXp (in), 3 RXn (in), 4 TX (out), 5 NC (in) hidden, 6 VDD (power), 7 TXRAMP (out), 8 VDD (power), 9 GPIO0 (io), 10 GPIO1 (io), 11 ~{{IRQ}} (oc), 12 SCLK (in), 13 SDO (out), 14 SDI (in), 15 ~{{SEL}} (in), 16 XOUT, 17 XIN (in), 18 GND (power), 19 GPIO2 (io), 20 GPIO3 (io), 21 GND (power) hidden

## SX1272
designator *  value SX1272
ki_keywords: low-power lora transceiver; ki_description: 860 MHz to 1020 MHz Low Power Long Range Transceiver, spreading factor from 6 to 12, LoRA, QFN-28; ki_fp_filters: QFN*1EP*6x6mm*P0.65mm*; Footprint: Package_DFN_QFN:QFN-28-1EP_6x6mm_P0.65mm_EP4.8x4.8mm; Supplier: https://semtech.my.salesforce.com/sfc/p/#E0000000JelG/a/440000001NCE/v_VBhk1IolDgxwwnOpcS_vTFxPfSEPQbuneK3mWsXlU
footprint QFN-28-1EP_6x6mm_P0.65mm_EP4.8x4.8mm
pins: 1 VBAT1 (power), 2 VR_ANA (power), 3 VR_DIG (power), 4 XTA (io), 5 XTB (io), 6 ~{{RESET}} (in), 7 NC (in) hidden, 8 NC (in) hidden, 9 DIO0 (io), 10 DIO1 (io), 11 DIO2 (io), 12 DIO3 (io), 13 DIO4 (io), 14 DIO5 (io), 15 VBAT2 (power), 16 GND (power), 17 SCK (in), 18 MISO (out), 19 MOSI (in), 20 NSS (in), 21 RF_MOD (out), 22 GND hidden, 23 RXTX (out), 24 RFO (out), 25 RFI (in), 26 GND hidden, 27 PA_BOOST (power), 28 VR_PA (power), 29 GND hidden

## SX1273
designator *  value SX1273
ki_keywords: low-power lora transceiver; ki_description: 860 MHz to 1020 MHz Low Power Long Range Transceiver, spreading factor from 6 to 9, LoRA, QFN-28; ki_fp_filters: QFN*1EP*6x6mm*P0.65mm*; Footprint: Package_DFN_QFN:QFN-28-1EP_6x6mm_P0.65mm_EP4.8x4.8mm; Supplier: https://semtech.my.salesforce.com/sfc/p/#E0000000JelG/a/440000001NCE/v_VBhk1IolDgxwwnOpcS_vTFxPfSEPQbuneK3mWsXlU
footprint QFN-28-1EP_6x6mm_P0.65mm_EP4.8x4.8mm
pins: 1 VBAT1 (power), 2 VR_ANA (power), 3 VR_DIG (power), 4 XTA (io), 5 XTB (io), 6 ~{{RESET}} (in), 7 NC (in) hidden, 8 NC (in) hidden, 9 DIO0 (io), 10 DIO1 (io), 11 DIO2 (io), 12 DIO3 (io), 13 DIO4 (io), 14 DIO5 (io), 15 VBAT2 (power), 16 GND (power), 17 SCK (in), 18 MISO (out), 19 MOSI (in), 20 NSS (in), 21 RF_MOD (out), 22 GND hidden, 23 RXTX (out), 24 RFO (out), 25 RFI (in), 26 GND hidden, 27 PA_BOOST (power), 28 VR_PA (power), 29 GND hidden

## SX1276
designator *  value SX1276
ki_keywords: low-power lora transceiver; ki_description: 137 MHz to 1020 MHz Low Power Long Range Transceiver, spreading factor from 6 to 12, LoRA, QFN-28; ki_fp_filters: QFN*1EP*6x6mm*P0.65mm*; Footprint: Package_DFN_QFN:QFN-28-1EP_6x6mm_P0.65mm_EP4.8x4.8mm; Supplier: https://semtech.my.salesforce.com/sfc/p/#E0000000JelG/a/2R0000001Rbr/6EfVZUorrpoKFfvaF_Fkpgp5kzjiNyiAbqcpqh9qSjE
footprint QFN-28-1EP_6x6mm_P0.65mm_EP4.8x4.8mm
pins: 1 RFI_LF (in), 2 VR_ANA (power), 3 VBAT_ANA (power), 4 VR_DIG (power), 5 XTA (io), 6 XTB (io), 7 ~{{RESET}} (in), 8 DIO0 (io), 9 DIO1 (io), 10 DIO2 (io), 11 DIO3 (io), 12 DIO4 (io), 13 DIO5 (io), 14 VBAT_DIG (power), 15 GND (power), 16 SCK (in), 17 MISO (out), 18 MOSI (in), 19 NSS (in), 20 RXTX/RF_MOD (out), 21 RFI_HF (in), 22 RFO_HF (out), 23 GND hidden, 24 VBAT_RF (power), 25 VR_PA (power), 26 GND hidden, 27 PA_BOOST (power), 28 RFO_LF (out), 29 GND hidden

## SX1277
designator *  value SX1277
ki_keywords: low-power lora transceiver; ki_description: 137 MHz to 525 MHz Low Power Long Range Transceiver, spreading factor from 6 to 12, LoRA, QFN-28; ki_fp_filters: QFN*1EP*6x6mm*P0.65mm*; Footprint: Package_DFN_QFN:QFN-28-1EP_6x6mm_P0.65mm_EP4.8x4.8mm; Supplier: https://semtech.my.salesforce.com/sfc/p/#E0000000JelG/a/2R0000001Rbr/6EfVZUorrpoKFfvaF_Fkpgp5kzjiNyiAbqcpqh9qSjE
footprint QFN-28-1EP_6x6mm_P0.65mm_EP4.8x4.8mm
pins: 1 RFI_LF (in), 2 VR_ANA (power), 3 VBAT_ANA (power), 4 VR_DIG (power), 5 XTA (io), 6 XTB (io), 7 ~{{RESET}} (in), 8 DIO0 (io), 9 DIO1 (io), 10 DIO2 (io), 11 DIO3 (io), 12 DIO4 (io), 13 DIO5 (io), 14 VBAT_DIG (power), 15 GND (power), 16 SCK (in), 17 MISO (out), 18 MOSI (in), 19 NSS (in), 20 RXTX/RF_MOD (out), 21 RFI_HF (in), 22 RFO_HF (out), 23 GND hidden, 24 VBAT_RF (power), 25 VR_PA (power), 26 GND hidden, 27 PA_BOOST (power), 28 RFO_LF (out), 29 GND hidden

## SX1278
designator *  value SX1278
ki_keywords: low-power lora transceiver; ki_description: 137 MHz to 525 MHz Low Power Long Range Transceiver, spreading factor from 6 to 12, LoRA, QFN-28; ki_fp_filters: QFN*1EP*6x6mm*P0.65mm*; Footprint: Package_DFN_QFN:QFN-28-1EP_6x6mm_P0.65mm_EP4.8x4.8mm; Supplier: https://semtech.my.salesforce.com/sfc/p/#E0000000JelG/a/2R0000001Rbr/6EfVZUorrpoKFfvaF_Fkpgp5kzjiNyiAbqcpqh9qSjE
footprint QFN-28-1EP_6x6mm_P0.65mm_EP4.8x4.8mm
pins: 1 RFI_LF (in), 2 VR_ANA (power), 3 VBAT_ANA (power), 4 VR_DIG (power), 5 XTA (io), 6 XTB (io), 7 ~{{RESET}} (in), 8 DIO0 (io), 9 DIO1 (io), 10 DIO2 (io), 11 DIO3 (io), 12 DIO4 (io), 13 DIO5 (io), 14 VBAT_DIG (power), 15 GND (power), 16 SCK (in), 17 MISO (out), 18 MOSI (in), 19 NSS (in), 20 RXTX/RF_MOD (out), 21 GND hidden, 22 GND hidden, 23 GND hidden, 24 VBAT_RF (power), 25 VR_PA (power), 26 GND hidden, 27 PA_BOOST (power), 28 RFO_LF (out), 29 GND hidden

## SX1279
designator *  value SX1279
ki_keywords: low-power lora transceiver; ki_description: 137 MHz to 960 MHz Low Power Long Range Transceiver, spreading factor from 6 to 12, LoRA, QFN-28; ki_fp_filters: QFN*1EP*6x6mm*P0.65mm*; Footprint: Package_DFN_QFN:QFN-28-1EP_6x6mm_P0.65mm_EP4.8x4.8mm; Supplier: https://semtech.my.salesforce.com/sfc/p/#E0000000JelG/a/2R0000001Rbr/6EfVZUorrpoKFfvaF_Fkpgp5kzjiNyiAbqcpqh9qSjE
footprint QFN-28-1EP_6x6mm_P0.65mm_EP4.8x4.8mm
pins: 1 RFI_LF (in), 2 VR_ANA (power), 3 VBAT_ANA (power), 4 VR_DIG (power), 5 XTA (io), 6 XTB (io), 7 ~{{RESET}} (in), 8 DIO0 (io), 9 DIO1 (io), 10 DIO2 (io), 11 DIO3 (io), 12 DIO4 (io), 13 DIO5 (io), 14 VBAT_DIG (power), 15 GND (power), 16 SCK (in), 17 MISO (out), 18 MOSI (in), 19 NSS (in), 20 RXTX/RF_MOD (out), 21 RFI_HF (in), 22 RFO_HF (out), 23 GND hidden, 24 VBAT_RF (power), 25 VR_PA (power), 26 GND hidden, 27 PA_BOOST (power), 28 RFO_LF (out), 29 GND hidden

## SYPD-1
designator *  value SYPD-1
ki_keywords: Phase Detector; ki_description: Phase Detector, 1 to 100 MHz, 50 Ohm, Mini-Cicuits TTT167; ki_fp_filters: Mini?Circuits*TTT167*; Footprint: RF_Mini-Circuits:Mini-Circuits_TTT167_LandPatternPL-079; Supplier: https://www.minicircuits.com/pdfs/SYPD-1+.pdf
footprint Mini-Circuits_TTT167_LandPatternPL-079
pins: 1 RF1 (in), 2 RF2 (in), 3 DC (out), 4 GND (power), 5 GND hidden, 6 GND hidden

## SYPD-2
designator *  value SYPD-2
ki_keywords: phase detector; ki_description: Phase Detector, 10 to 200 MHz, 50 Ohm, Mini-Cicuits TTT167; ki_fp_filters: Mini?Circuits*TTT167*; Footprint: RF_Mini-Circuits:Mini-Circuits_TTT167_LandPatternPL-079; Supplier: https://www.minicircuits.com/pdfs/SYPD-2.pdf
footprint Mini-Circuits_TTT167_LandPatternPL-079
pins: 1 RF1 (in), 2 RF2 (in), 3 DC (out), 4 GND (power), 5 GND hidden, 6 GND hidden

## SYPD-52
designator *  value SYPD-52
ki_keywords: Phase Detector; ki_description: Phase Detector, 400 to 500 MHz, 50 Ohm, Mini-Cicuits TTT167; ki_fp_filters: Mini?Circuits*TTT167*; Footprint: RF_Mini-Circuits:Mini-Circuits_TTT167_LandPatternPL-079; Supplier: https://www.minicircuits.com/pdfs/SYPD-52+.pdf
footprint Mini-Circuits_TTT167_LandPatternPL-079
pins: 1 RF1 (in), 2 RF2 (in), 3 DC (out), 4 GND (power), 5 GND hidden, 6 GND hidden

## TCP-2-10X
designator *  value TCP-2-10X
ki_keywords: splitter combiner; ki_description: Power splitter combiner, 5 to 1000 MHz, 2 way 0-degree, 50 ohm, Mini-Circuits DB1627; ki_fp_filters: Mini?Circuits*DB1627*; Footprint: RF_Mini-Circuits:Mini-Circuits_DB1627; Supplier: https://www.minicircuits.com/pdfs/TCP-2-10X+.pdf
footprint Mini-Circuits_DB1627
pins: 1 GND, 2 CON hidden, 3 PORT1, 4 PORT2, 5 CON, 6 SUM